# EAGLE library part _IC_ETH_W5100 (library SamacSys_Parts)
Ethernet ICs Source: Datasheet <https://wizwiki.net/wiki/lib/exe/fetch.php?media=products:w5100s:w5100s_ds_v100e.pdf>
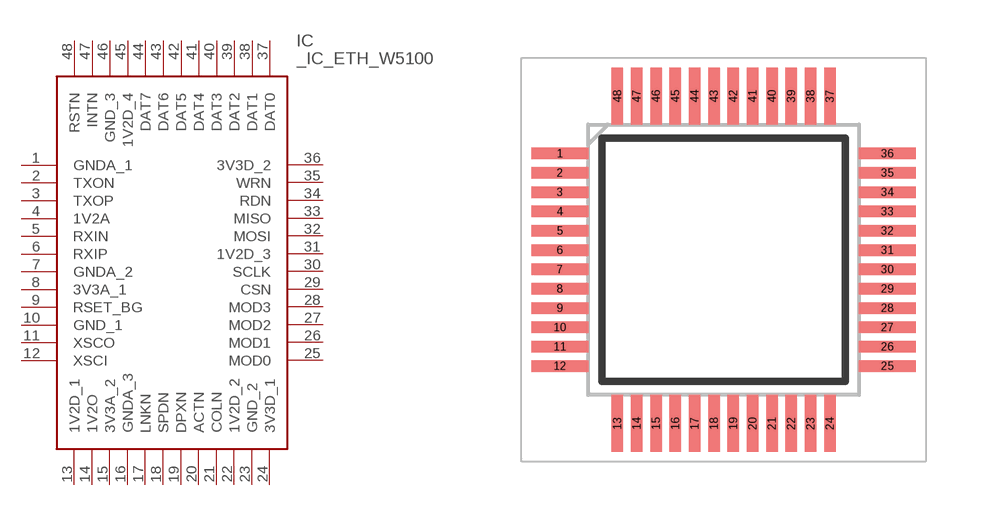
[diagram p5: symbol with the pads of QFP50P900X900X160-48N; footprint QFP50P900X900X160-48N]

Designator prefix IC

## _IC_ETH_W5100 (DESCRIPTION: Ethernet ICs; HEIGHT: 1.6mm; MANUFACTURER_NAME: WIZnet Inc; MANUFACTURER_PART_NUMBER: W5100S-L; MOUSER_PART_NUMBER: 950-W5100S-L; MOUSER_PRICE-STOCK: https://www.mouser.co.uk/ProductDetail/WIZnet/W5100S-L?qs=wnTfsH77Xs6eczkKf5LdDg%3D%3D)  [QFP50P900X900X160-48N]
1  GNDA_1
2  TXON
3  TXOP
4  1V2A
5  RXIN
6  RXIP
7  GNDA_2
8  3V3A_1
9  RSET_BG
10  GND_1
11  XSCO
12  XSCI
13  1V2D_1
14  1V2O
15  3V3A_2
16  GNDA_3
17  LNKN
18  SPDN
19  DPXN
20  ACTN
21  COLN
22  1V2D_2
23  GND_2
24  3V3D_1
25  MOD0
26  MOD1
27  MOD2
28  MOD3
29  CSN
30  SCLK
31  1V2D_3
32  MOSI
33  MISO
34  RDN
35  WRN
36  3V3D_2
37  DAT0
38  DAT1
39  DAT2
40  DAT3
41  DAT4
42  DAT5
43  DAT6
44  DAT7
45  1V2D_4
46  GND_3
47  INTN
48  RSTN

## Footprint QFP50P900X900X160-48N (pad centres in mm)
W5500(1.6mm)
smd 1.475 x 0.3: 1 -4.238,2.75; 2 -4.238,2.25; 3 -4.238,1.75; 4 -4.238,1.25; 5 -4.238,0.75; 6 -4.238,0.25; 7 -4.238,-0.25; 8 -4.238,-0.75; 9 -4.238,-1.25; 10 -4.238,-1.75; 11 -4.238,-2.25; 12 -4.238,-2.75; 25 4.238,-2.75; 26 4.238,-2.25; 27 4.238,-1.75; 28 4.238,-1.25; 29 4.238,-0.75; 30 4.238,-0.25; 31 4.238,0.25; 32 4.238,0.75; 33 4.238,1.25; 34 4.238,1.75; 35 4.238,2.25; 36 4.238,2.75
smd 0.3 x 1.475: 13 -2.75,-4.238; 14 -2.25,-4.238; 15 -1.75,-4.238; 16 -1.25,-4.238; 17 -0.75,-4.238; 18 -0.25,-4.238; 19 0.25,-4.238; 20 0.75,-4.238; 21 1.25,-4.238; 22 1.75,-4.238; 23 2.25,-4.238; 24 2.75,-4.238; 37 2.75,4.238; 38 2.25,4.238; 39 1.75,4.238; 40 1.25,4.238; 41 0.75,4.238; 42 0.25,4.238; 43 -0.25,4.238; 44 -0.75,4.238; 45 -1.25,4.238; 46 -1.75,4.238; 47 -2.25,4.238; 48 -2.75,4.238